# Altium schematic symbol library U_PolyZen.SchLib: 1 symbol
Pins are listed as number, name and electrical type; pins without a type are passive.

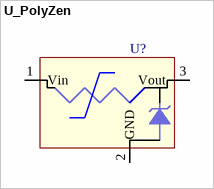
[diagram p0: symbol U_PolyZen]

## U_PolyZen
designator U?
pins: 1 Vin, 2 GND, 3 Vout